# Altium footprint library MEGA.PcbLib: 237 footprints (part 12 of 15)
Each footprint in its own frame and in the unit in brackets; x right, y up, seen from the top. Pads: shape width x height; smd on the part's side, far side on the other; paste and mask are expansions set on the pad; w line width, h text height; cw(c..) or ccw(c..) is an arc to the next point about the centre after c.
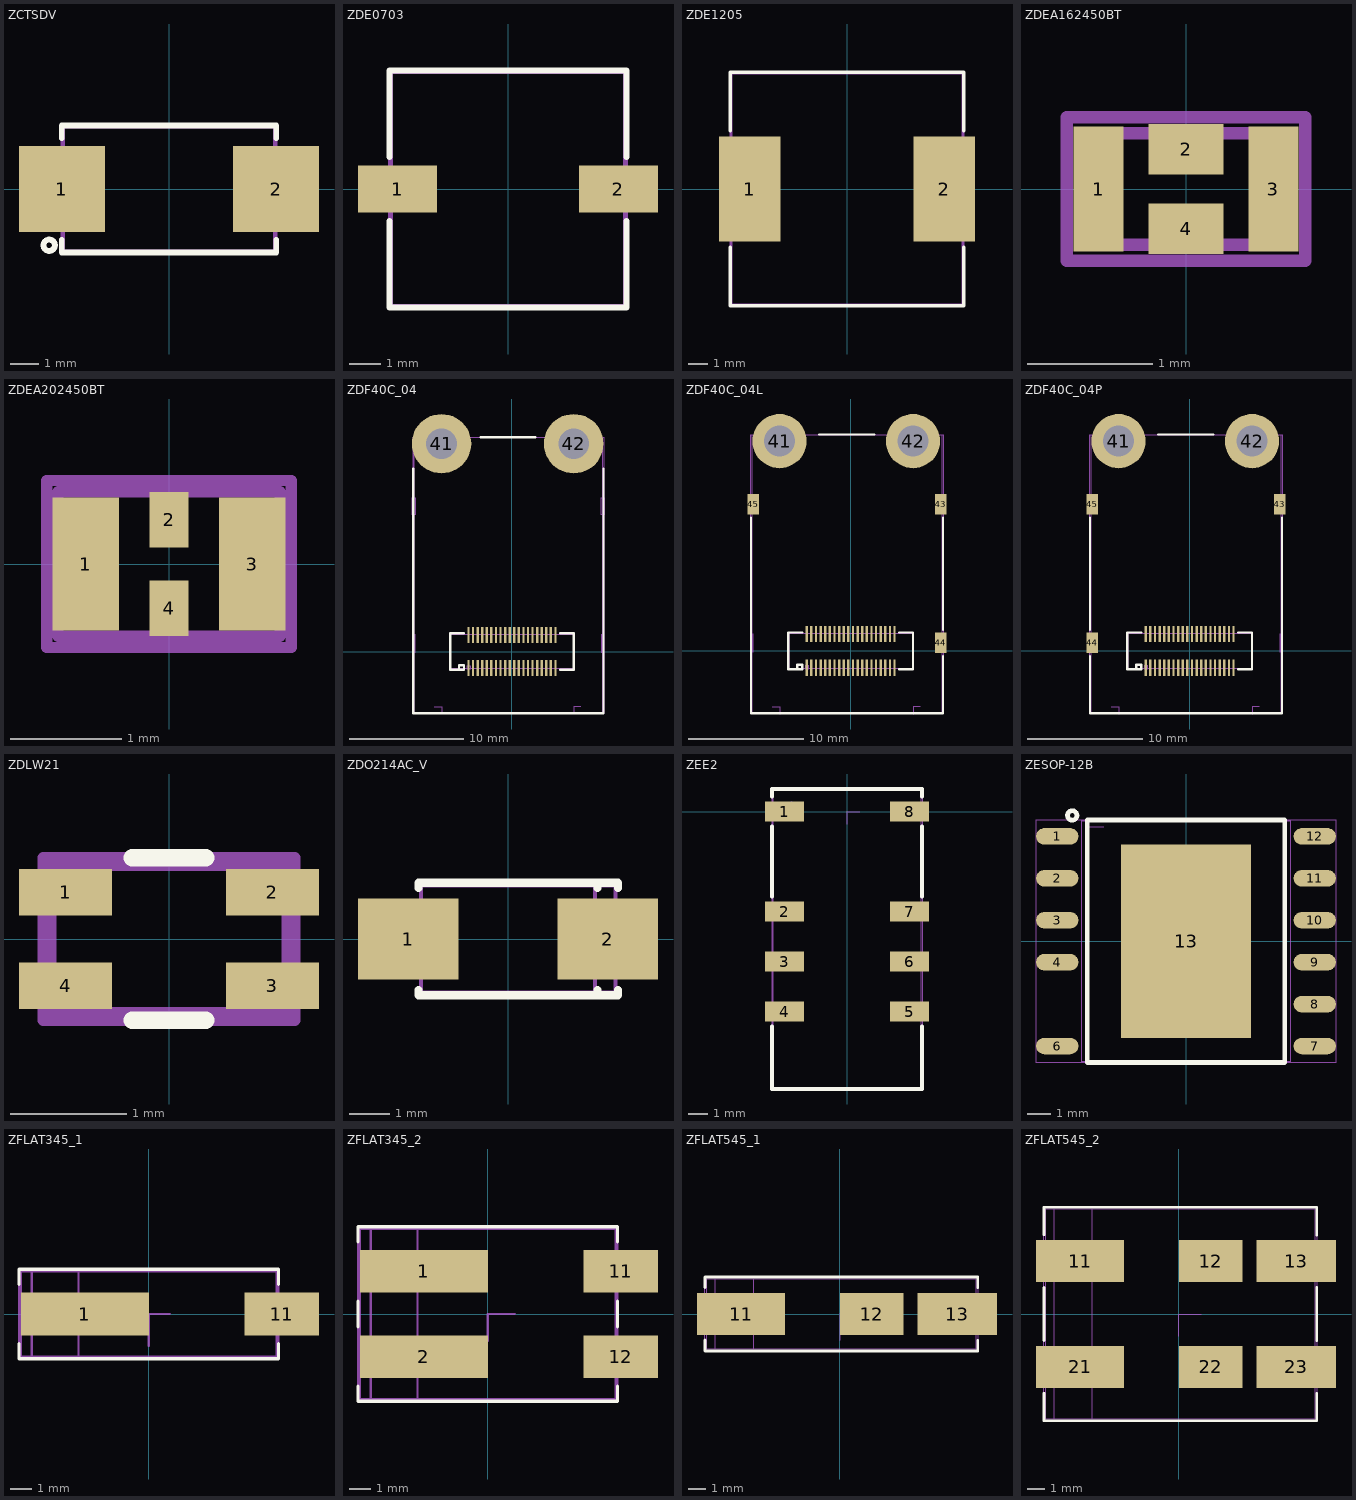
[diagram p11: the footprints below, top view; thin cyan lines are the x and y axes]

## ZCTSDV [mm]
pads (2):
  rrect0% 3x3 smd paste-0.225 mask+0.05: 1(-3.746,0) 2(3.746,0)
Top Overlay:
  circle w0.2: c-4.191,-1.968 r0.2
  lines w0.2: -3.746,-1.778 -3.746,-2.222 3.746,-2.222 3.746,-1.778 ; -3.746,1.778 -3.746,2.222 3.746,2.222 3.746,1.778
Mechanical 15:
  lines w0.1: -3.429,0 -2.921,0 ; -3.175,-0.254 -3.175,0.254 ; -3.683,-2.159 3.683,-2.159 3.683,2.159 -3.683,2.159 -3.683,-2.159
Mechanical 20:
  lines w0.1: -3.746,-2.222 3.746,-2.222 3.746,2.222 -3.746,2.222 -3.746,-2.222

## ZDE0703 [mm]
pads (2):
  rect 2.5x1.5 smd paste-0.19 mask+0.05: 1(-3.492,0) 2(3.492,0)
Top Overlay:
  lines w0.2: -3.746,-1.016 -3.746,-3.746 3.746,-3.746 3.746,-1.016 ; -3.746,1.016 -3.746,3.746 3.746,3.746 3.746,1.016
Mechanical 15:
  lines w0.1: -3.683,-3.683 3.683,-3.683 3.683,3.683 -3.683,3.683 -3.683,-3.683
Mechanical 20:
  lines w0.1: -3.746,-3.746 3.746,-3.746 3.746,3.746 -3.746,3.746 -3.746,-3.746
3D body "L_TDK_SLF7032.step": height 2.5, standoff 0, extent -3.48,-3.495 3.52,3.505

## ZDE1205 [mm]
pads (2):
  rect 3.2x5.5 smd paste-0.415 mask+0.05: 1(-5.08,0) 2(5.08,0)
Top Overlay:
  lines w0.2: -6.096,-3.048 -6.096,-6.096 6.096,-6.096 6.096,-3.048 ; -6.096,3.048 -6.096,6.096 6.096,6.096 6.096,3.048
Mechanical 15:
  lines w0.1: -6.032,-6.032 -6.032,6.032 6.032,6.032 6.032,-6.032 -6.032,-6.032
Mechanical 20:
  lines w0.1: -6.096,-6.096 -6.096,6.096 6.096,6.096 6.096,-6.096 -6.096,-6.096
3D body "L_Bourns_SRR1260.step": height 6, standoff 0, extent -6.25,-6.25 6.25,6.25

## ZDEA162450BT [mm]
pads (4):
  rect 0.4x1 smd paste-0.075 mask+0.05: 1(-0.699,0) 3(0.699,0)
  rect 0.6x0.4 smd paste-0.045 mask+0.05: 2(0,0.318) 4(0,-0.318)
Mechanical 15:
  lines w0.1: -0.826,-0.445 0.826,-0.445 0.826,0.445 -0.826,0.445 -0.826,-0.445 ; -0.762,-0.064 -0.635,-0.064 -0.635,0.064 -0.762,0.064 -0.762,-0.064
Mechanical 20:
  lines w0.1: -0.953,-0.572 0.953,-0.572 0.953,0.572 -0.953,0.572 -0.953,-0.572

## ZDEA202450BT [mm]
pads (4):
  rect 0.6x1.2 smd paste-0.1 mask+0.05: 1(-0.75,0) 3(0.75,0)
  rect 0.35x0.5 smd paste-0.04 mask+0.05: 2(0,0.4) 4(0,-0.4)
Mechanical 15:
  lines w0.1: -1,-0.65 1,-0.65 1,0.65 -1,0.65 -1,-0.65
Mechanical 20:
  lines w0.1: -1.1,-0.75 1.1,-0.75 1.1,0.75 -1.1,0.75 -1.1,-0.75

## ZDF40C_04 [mm]
pads (42):
  rect 0.2x1.4 smd paste-0.105 mask+0.05: 1(-3.8,-1.46) 2(-3.8,1.46) 3(-3.4,-1.46) 4(-3.4,1.46) 5(-3,-1.46) 6(-3,1.46) 7(-2.6,-1.46) 8(-2.6,1.46) 9(-2.2,-1.46) 10(-2.2,1.46) 11(-1.8,-1.46) 12(-1.8,1.46) 13(-1.4,-1.46) 14(-1.4,1.46) 15(-1,-1.46) 16(-1,1.46) 17(-0.6,-1.46) 18(-0.6,1.46) 19(-0.2,-1.46) 20(-0.2,1.46) 21(0.2,-1.46) 22(0.2,1.46) 23(0.6,-1.46) 24(0.6,1.46) 25(1,-1.46) 26(1,1.46) 27(1.4,-1.46) 28(1.4,1.46) 29(1.8,-1.46) 30(1.8,1.46) 31(2.2,-1.46) 32(2.2,1.46) 33(2.6,-1.46) 34(2.6,1.46) 35(3,-1.46) 36(3,1.46) 37(3.4,-1.46) 38(3.4,1.46) 39(3.8,-1.46) 40(3.8,1.46)
  round 5.2 hole 2.7 mask+0.05: 41(-6.159,18.161) 42(5.397,18.161)
Top Overlay:
  lines w0.2: -8.636,16.002 -8.636,-5.397 8.001,-5.397 8.001,16.002 ; -4.635,-1.587 -4.635,-1.206 -4.191,-1.206 -4.191,-1.587 -5.397,-1.587 -5.397,1.587 -4.191,1.587 ; -2.73,18.732 2.032,18.732 ; 4.191,-1.587 5.397,-1.587 5.397,1.587 4.191,1.587
Mechanical 15:
  lines w0.1: -8.7,-0.064 -8.445,-0.064 -8.445,1.46 -8.7,1.46 -8.7,-0.064 ; -8.7,11.938 -8.445,11.938 -8.445,13.462 -8.7,13.462 -8.7,11.938 ; -8.572,-5.334 7.938,-5.334 7.938,18.669 -8.572,18.669 -8.572,-5.334 ; -5.334,-1.524 5.334,-1.524 5.334,1.524 -5.334,1.524 -5.334,-1.524 ; -3.937,-1.524 -3.619,-1.524 -3.619,-1.27 -3.937,-1.27 -3.937,-1.524 ; 7.81,-0.064 7.81,1.46 8.064,1.46 8.064,-0.064 7.81,-0.064 ; 7.81,11.938 8.064,11.938 8.064,13.462 7.81,13.462 7.81,11.938
Mechanical 19:
  lines w0.1: -6.794,-4.826 -6.159,-4.826 -6.159,-5.461 ; 5.397,-5.461 5.397,-4.826 6.032,-4.826
Mechanical 20:
  lines w0.1: -8.636,-5.397 8.001,-5.397 8.001,18.732 -8.636,18.732 -8.636,-5.397

## ZDF40C_04L [mm]
pads (45):
  rect 0.2x1.4 smd paste-0.105 mask+0.05: 1(-3.8,-1.46) 2(-3.8,1.46) 3(-3.4,-1.46) 4(-3.4,1.46) 5(-3,-1.46) 6(-3,1.46) 7(-2.6,-1.46) 8(-2.6,1.46) 9(-2.2,-1.46) 10(-2.2,1.46) 11(-1.8,-1.46) 12(-1.8,1.46) 13(-1.4,-1.46) 14(-1.4,1.46) 15(-1,-1.46) 16(-1,1.46) 17(-0.6,-1.46) 18(-0.6,1.46) 19(-0.2,-1.46) 20(-0.2,1.46) 21(0.2,-1.46) 22(0.2,1.46) 23(0.6,-1.46) 24(0.6,1.46) 25(1,-1.46) 26(1,1.46) 27(1.4,-1.46) 28(1.4,1.46) 29(1.8,-1.46) 30(1.8,1.46) 31(2.2,-1.46) 32(2.2,1.46) 33(2.6,-1.46) 34(2.6,1.46) 35(3,-1.46) 36(3,1.46) 37(3.4,-1.46) 38(3.4,1.46) 39(3.8,-1.46) 40(3.8,1.46)
  round 4.7 hole 2.7 mask+0.05: 41(-6.159,18.161) 42(5.397,18.161)
  rect 1x1.8 smd mask+0.05: 43(7.81,12.7) 44(7.81,0.699) 45(-8.445,12.7)
Top Overlay:
  lines w0.2: -8.636,11.557 -8.636,-5.397 8.001,-5.397 8.001,-0.445 ; -4.635,-1.587 -4.635,-1.206 -4.191,-1.206 -4.191,-1.587 -5.397,-1.587 -5.397,1.587 -4.191,1.587 ; -2.73,18.732 2.032,18.732 ; 4.191,-1.587 5.397,-1.587 5.397,1.587 4.191,1.587 ; 8.001,1.841 8.001,11.557
Mechanical 15:
  lines w0.1: -8.7,-0.064 -8.445,-0.064 -8.445,1.46 -8.7,1.46 -8.7,-0.064 ; -8.7,11.938 -8.445,11.938 -8.445,13.462 -8.7,13.462 -8.7,11.938 ; -8.572,-5.334 7.938,-5.334 7.938,18.669 -8.572,18.669 -8.572,-5.334 ; -5.334,-1.524 5.334,-1.524 5.334,1.524 -5.334,1.524 -5.334,-1.524 ; -3.937,-1.524 -3.619,-1.524 -3.619,-1.27 -3.937,-1.27 -3.937,-1.524 ; 7.81,-0.064 7.81,1.46 8.064,1.46 8.064,-0.064 7.81,-0.064 ; 7.81,11.938 8.064,11.938 8.064,13.462 7.81,13.462 7.81,11.938
Multi-Layer:
  text "Value" at -1.235,-3.282 h0.75
Mechanical 19:
  lines w0.1: -6.794,-4.826 -6.159,-4.826 -6.159,-5.461 ; 5.397,-5.461 5.397,-4.826 6.032,-4.826
Mechanical 20:
  lines w0.1: -8.636,-5.397 8.001,-5.397 8.001,18.732 -8.636,18.732 -8.636,-5.397

## ZDF40C_04P [mm]
pads (45):
  rect 0.2x1.4 smd paste-0.105 mask+0.05: 1(-3.8,-1.46) 2(-3.8,1.46) 3(-3.4,-1.46) 4(-3.4,1.46) 5(-3,-1.46) 6(-3,1.46) 7(-2.6,-1.46) 8(-2.6,1.46) 9(-2.2,-1.46) 10(-2.2,1.46) 11(-1.8,-1.46) 12(-1.8,1.46) 13(-1.4,-1.46) 14(-1.4,1.46) 15(-1,-1.46) 16(-1,1.46) 17(-0.6,-1.46) 18(-0.6,1.46) 19(-0.2,-1.46) 20(-0.2,1.46) 21(0.2,-1.46) 22(0.2,1.46) 23(0.6,-1.46) 24(0.6,1.46) 25(1,-1.46) 26(1,1.46) 27(1.4,-1.46) 28(1.4,1.46) 29(1.8,-1.46) 30(1.8,1.46) 31(2.2,-1.46) 32(2.2,1.46) 33(2.6,-1.46) 34(2.6,1.46) 35(3,-1.46) 36(3,1.46) 37(3.4,-1.46) 38(3.4,1.46) 39(3.8,-1.46) 40(3.8,1.46)
  round 4.7 hole 2.7 mask+0.05: 41(-6.159,18.161) 42(5.397,18.161)
  rect 1x1.8 smd mask+0.05: 43(7.81,12.7) 44(-8.445,0.699) 45(-8.445,12.7)
Top Overlay:
  lines w0.2: -8.636,-0.445 -8.636,-5.397 8.001,-5.397 8.001,11.557 ; -8.636,1.841 -8.636,11.557 ; -4.635,-1.587 -4.635,-1.206 -4.191,-1.206 -4.191,-1.587 -5.397,-1.587 -5.397,1.587 -4.191,1.587 ; -2.73,18.732 2.032,18.732 ; 4.191,-1.587 5.397,-1.587 5.397,1.587 4.191,1.587
Mechanical 15:
  lines w0.1: -8.7,-0.064 -8.445,-0.064 -8.445,1.46 -8.7,1.46 -8.7,-0.064 ; -8.7,11.938 -8.445,11.938 -8.445,13.462 -8.7,13.462 -8.7,11.938 ; -8.572,-5.334 7.938,-5.334 7.938,18.669 -8.572,18.669 -8.572,-5.334 ; -5.334,-1.524 5.334,-1.524 5.334,1.524 -5.334,1.524 -5.334,-1.524 ; -3.937,-1.524 -3.619,-1.524 -3.619,-1.27 -3.937,-1.27 -3.937,-1.524 ; 7.81,-0.064 7.81,1.46 8.064,1.46 8.064,-0.064 7.81,-0.064 ; 7.81,11.938 8.064,11.938 8.064,13.462 7.81,13.462 7.81,11.938
Multi-Layer:
  text "Value" at -1.235,-3.282 h0.75
Mechanical 19:
  lines w0.1: -6.794,-4.826 -6.159,-4.826 -6.159,-5.461 ; 5.397,-5.461 5.397,-4.826 6.032,-4.826
Mechanical 20:
  lines w0.1: -8.636,-5.397 8.001,-5.397 8.001,18.732 -8.636,18.732 -8.636,-5.397

## ZDLW21 [mm]
height 1.25
pads (4):
  rect 0.8x0.4 smd paste-0.06 mask+0.05: 1(-0.889,0.4) 2(0.889,0.4) 3(0.889,-0.4) 4(-0.889,-0.4)
Top Overlay:
  lines w0.15: -0.318,-0.699 0.318,-0.699 ; -0.318,0.699 0.318,0.699
Mechanical 15:
  lines w0.1: -1.016,-0.635 1.016,-0.635 1.016,0.635 -1.016,0.635 -1.016,-0.635
Multi-Layer:
  text "Value" at -0.887,-0.554 h0.5
Mechanical 20:
  lines w0.1: -1.079,-0.699 1.079,-0.699 1.079,0.699 -1.079,0.699 -1.079,-0.699

## ZDO214AC_V [mm]
pads (2):
  rect 2.5x2 smd paste-0.19 mask+0.05: 1(-2.476,0) 2(2.476,0)
Top Overlay:
  lines w0.2: -2.222,-1.27 -2.222,-1.397 2.222,-1.397 ; -2.222,1.27 -2.222,1.397 2.222,1.397 ; 2.222,-1.27 2.222,-1.397 ; 2.222,1.27 2.222,1.397 ; 2.73,-1.27 2.73,-1.397 2.222,-1.397 ; 2.73,1.27 2.73,1.397 2.222,1.397
Mechanical 15:
  lines w0.1: 2.159,-1.333 2.159,1.333 ; 2.159,-1.333 -2.159,-1.333 -2.159,1.333 2.159,1.333 ; 2.159,-1.333 2.667,-1.333 2.667,1.333 2.159,1.333
Multi-Layer:
  text "Value" at -1.045,0.083 h0.75

## ZEE2 [mm]
pads (8):
  rect 2x1 smd paste-0.15 mask+0.05: 1(-3.175,0) 2(-3.175,-5.08) 3(-3.175,-7.62) 4(-3.175,-10.16) 5(3.175,-10.16) 6(3.175,-7.62) 7(3.175,-5.08) 8(3.175,0)
Top Overlay:
  lines w0.2: -3.81,-10.922 -3.81,-14.097 3.81,-14.097 3.81,-10.922 ; -3.81,-4.318 -3.81,-0.762 ; -3.81,0.762 -3.81,1.143 3.81,1.143 3.81,0.762 ; 3.81,-4.318 3.81,-0.762
Mechanical 15:
  circle w0.01: c-2.794,0.064 r0.4
  lines w0.01: -3.746,-14.034 3.746,-14.034 3.746,1.079 -3.746,1.079 -3.746,-14.034
Mechanical 19:
  lines w0.01: 0,-0.635 0,0 0.635,0
Mechanical 20:
  lines w0.01: -3.81,-14.097 3.81,-14.097 3.81,1.143 -3.81,1.143 -3.81,-14.097

## ZESOP-12B [mm]
height 1.75
pads (12):
  oval 1.8x0.7 smd paste-0.135 mask+0.05: 1(-5.461,4.445) 2(-5.461,2.667) 3(-5.461,0.889) 4(-5.461,-0.889) 6(-5.461,-4.445) 7(5.461,-4.445) 8(5.461,-2.667) 9(5.461,-0.889) 10(5.461,0.889) 11(5.461,2.667) 12(5.461,4.445)
  rect 5.5x8.2 smd paste-0.615 mask+0.05: 13(0,0)
Top Overlay:
  circle w0.2: c-4.826,5.334 r0.2
  lines w0.2: -4.191,-5.143 4.191,-5.143 4.191,5.143 -4.191,5.143 -4.191,-5.143
Mechanical 15:
  lines w0.01: -4.191,4.127 -4.191,4.826 -3.492,4.826 ; -4.445,-5.08 4.445,-5.08 4.445,5.08 -4.445,5.08 -4.445,-5.08
Mechanical 20:
  lines w0.01: -6.35,-5.143 6.35,-5.143 6.35,5.143 -6.35,5.143 -6.35,-5.143

## ZFLAT345_1 [mm]
pads (2):
  rect 6x2 smd paste-0.45 mask+0.05: 1(-3,0)
  rect 3.5x2 smd paste-0.265 mask+0.05: 11(6.25,0)
Top Overlay:
  lines w0.15: -6.1,-1.4 -6.1,-2.1 6.1,-2.1 6.1,-1.4 ; -6.1,1.4 -6.1,2.1 6.1,2.1 6.1,1.4
Mechanical 15:
  lines w0.1: -5.5,-2 -5.5,2 ; -3.3,-2 -3.3,2 ; -6,-2 6,-2 6,2 -6,2 -6,-2
Mechanical 19:
  lines w0.1: 0,-1.5 0,0 1,0
Mechanical 20:
  lines w0.1: -6.1,-2.1 6.1,-2.1 6.1,2.1 -6.1,2.1 -6.1,-2.1

## ZFLAT345_2 [mm]
pads (4):
  rect 6x2 smd paste-0.45 mask+0.05: 1(-3,2) 2(-3,-2)
  rect 3.5x2 smd paste-0.265 mask+0.05: 11(6.25,2) 12(6.25,-2)
Top Overlay:
  lines w0.15: -6.1,-3.4 -6.1,-4.1 6.1,-4.1 6.1,-3.4 ; -6.1,-0.6 -6.1,0.6 ; -6.1,3.4 -6.1,4.1 6.1,4.1 6.1,3.4 ; 6.1,-0.6 6.1,0.6
Mechanical 15:
  lines w0.1: -5.5,-4 -5.5,4 ; -3.3,-4 -3.3,4 ; -6,-4 6,-4 6,4 -6,4 -6,-4
Mechanical 19:
  lines w0.1: 0,-1.27 0,0 1.27,0
Mechanical 20:
  lines w0.1: -6.1,-4.1 6.1,-4.1 6.1,4.1 -6.1,4.1 -6.1,-4.1

## ZFLAT545_1 [mm]
pads (3):
  rect 5x2.4 smd paste-0.375 mask+0.05: 11(-5.6,0)
  rect 3.6x2.4 smd paste-0.27 mask+0.05: 12(1.8,0)
  rect 4.5x2.4 smd paste-0.335 mask+0.05: 13(6.65,0)
Top Overlay:
  lines w0.15: -7.65,-1.475 -7.65,-2.1 7.8,-2.1 7.8,-1.5 ; -7.65,1.5 -7.65,2.1 7.8,2.1 7.8,1.5
Mechanical 15:
  lines w0.01: -7.1,-2 -7.1,2 ; -4.9,-2 -4.9,2 ; -7.55,-2 7.7,-2 7.7,2 -7.55,2 -7.55,-2
Mechanical 19:
  lines w0.01: 0,-1.5 0,0 1,0
Mechanical 20:
  lines w0.01: -7.65,-2.1 7.8,-2.1 7.8,2.1 -7.65,2.1 -7.65,-2.1

## ZFLAT545_2 [mm]
pads (6):
  rect 5x2.4 smd paste-0.375 mask+0.05: 11(-5.6,3) 21(-5.6,-3)
  rect 3.6x2.4 smd paste-0.27 mask+0.05: 12(1.8,3) 22(1.8,-3)
  rect 4.5x2.4 smd paste-0.335 mask+0.05: 13(6.65,3) 23(6.65,-3)
Top Overlay:
  lines w0.15: -7.65,-4.5 -7.65,-6.05 7.8,-6.05 7.8,-4.5 ; -7.65,-1.5 -7.65,1.5 ; -7.65,4.5 -7.65,6.05 7.8,6.05 7.8,4.475 ; 7.8,-1.5 7.8,1.5
Mechanical 15:
  lines w0.01: -7.1,-5.95 -7.1,5.95 ; -4.9,-5.95 -4.9,5.95 ; -7.55,-5.95 7.7,-5.95 7.7,5.95 -7.55,5.95 -7.55,-5.95
Multi-Layer:
  text "Value" at -0.943,-1.305 h0.6
Mechanical 19:
  lines w0.01: 0,-1.27 0,0 1.27,0
Mechanical 20:
  lines w0.01: -7.65,-6.05 7.8,-6.05 7.8,6.05 -7.65,6.05 -7.65,-6.05